# Altium footprint library KF350.PcbLib: 1 footprints
Each footprint in its own frame and in the unit in brackets; x right, y up, seen from the top. Pads: shape width x height; smd on the part's side, far side on the other; paste and mask are expansions set on the pad; w line width, h text height; cw(c..) or ccw(c..) is an arc to the next point about the centre after c.
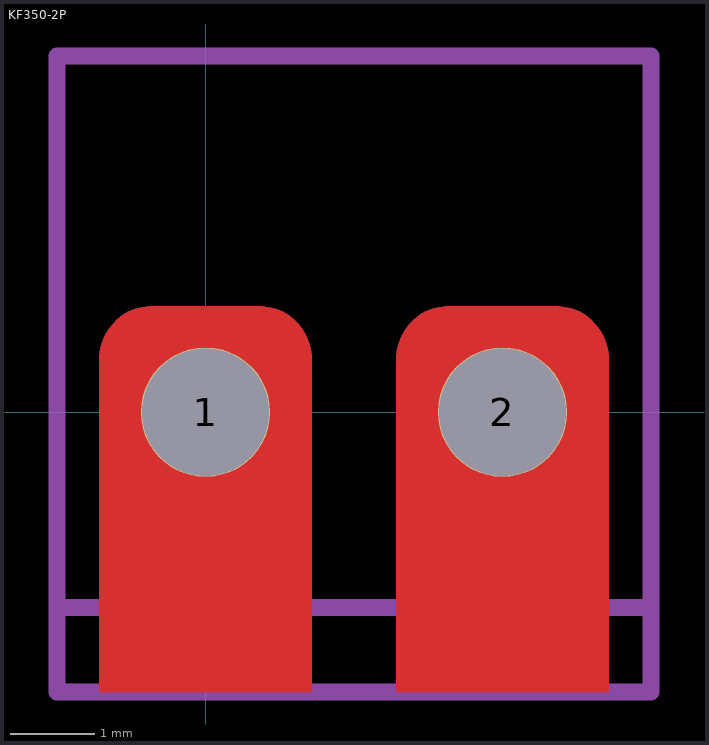
[diagram p0: the footprint, top view; thin cyan lines are the x and y axes]

## KF350-2P [mm]
pads (2):
  round 1.525 hole 1.5: 1(0,0) 2(3.5,0)
Top Layer:
  region: 2.25,-3.3 2.25,0.625 2.25,0.666 2.261,0.747 2.282,0.826 2.313,0.902 2.354,0.973 2.404,1.038 2.462,1.096 2.527,1.146 2.598,1.187 2.674,1.218 2.753,1.239 2.834,1.25 2.875,1.25 4.125,1.25 4.166,1.25 4.247,1.239 4.326,1.218 4.402,1.187 4.473,1.146 4.538,1.096 4.596,1.038 4.646,0.973 4.687,0.902 4.718,0.826 4.739,0.747 4.75,0.666 4.75,0.625 4.75,-3.3
  region: -1.25,-3.3 -1.25,0.625 -1.25,0.666 -1.239,0.747 -1.218,0.826 -1.187,0.902 -1.146,0.973 -1.096,1.038 -1.038,1.096 -0.973,1.146 -0.902,1.187 -0.826,1.218 -0.747,1.239 -0.666,1.25 -0.625,1.25 0.625,1.25 0.666,1.25 0.747,1.239 0.826,1.218 0.902,1.187 0.973,1.146 1.038,1.096 1.096,1.038 1.146,0.973 1.187,0.902 1.218,0.826 1.239,0.747 1.25,0.666 1.25,0.625 1.25,-3.3
Bottom Layer:
  region: 2.25,-3.3 2.25,0.625 2.25,0.666 2.261,0.747 2.282,0.826 2.313,0.902 2.354,0.973 2.404,1.038 2.462,1.096 2.527,1.146 2.598,1.187 2.674,1.218 2.753,1.239 2.834,1.25 2.875,1.25 4.125,1.25 4.166,1.25 4.247,1.239 4.326,1.218 4.402,1.187 4.473,1.146 4.538,1.096 4.596,1.038 4.646,0.973 4.687,0.902 4.718,0.826 4.739,0.747 4.75,0.666 4.75,0.625 4.75,-3.3
  region: -1.25,-3.3 -1.25,0.625 -1.25,0.666 -1.239,0.747 -1.218,0.826 -1.187,0.902 -1.146,0.973 -1.096,1.038 -1.038,1.096 -0.973,1.146 -0.902,1.187 -0.826,1.218 -0.747,1.239 -0.666,1.25 -0.625,1.25 0.625,1.25 0.666,1.25 0.747,1.239 0.826,1.218 0.902,1.187 0.973,1.146 1.038,1.096 1.096,1.038 1.146,0.973 1.187,0.902 1.218,0.826 1.239,0.747 1.25,0.666 1.25,0.625 1.25,-3.3
Mechanical 1:
  lines w0.2: -1.75,-3.3 5.25,-3.3 ; -1.75,-3.3 -1.75,-2.3 5.25,-2.3 5.25,-3.3 ; -1.75,-3.3 -1.75,4.2 5.25,4.2 5.25,-3.3 ; -1.75,-3.3 5.25,-3.3
3D body "KF350 v2.step": height 10, standoff -3.8, extent -2.15,-3.3 5.25,4.2